# EAGLE library part LT1767EMS8E-5PBF (library lineartechnology)
Step-Down Switching Regulators
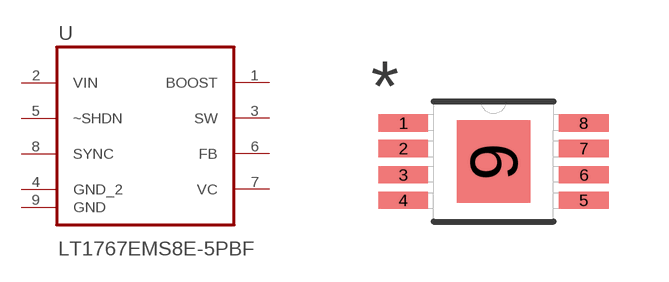
[diagram p1: symbol with the pads of SOP65P490X110-9N; footprint SOP65P490X110-9N]

Designator prefix U

## LT1767EMS8E-5PBF (MPN: LT1767EMS8E-5#PBF; OC_FARNELL: 1663491; OC_NEWARK: 57M6275; PACKAGE: MSOP-8; SUPPLIER: Linear Technology)  [SOP65P490X110-9N]
1  BOOST  pwr
2  VIN  pwr
3  SW  pas
4  GND_2  pas
5  ~SHDN  in
6  FB  in
7  VC
8  SYNC  in
9  GND  pas

## Footprint SOP65P490X110-9N (pad centres in mm)
smd 1.245 x 0.432: 1 -2.261,0.965; 2 -2.261,0.33; 3 -2.261,-0.33; 4 -2.261,-0.965; 5 2.261,-0.965; 6 2.261,-0.33; 7 2.261,0.33; 8 2.261,0.965
smd 1.829 x 2.057: 9 0,0